# EAGLE library part 12_POS_XH_DEV (library Blizzard_Library)
12 Pos JST XH
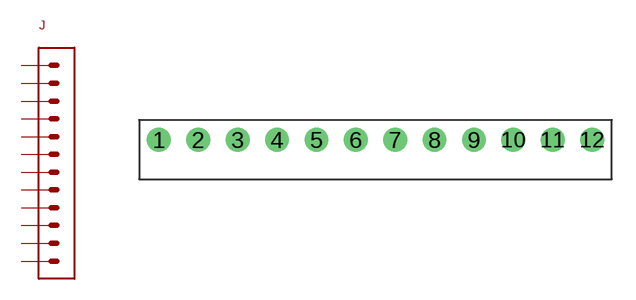
[diagram p11: symbol with the pads of 12_POS_XH_PKG; footprint 12_POS_XH_PKG]

Designator prefix J

## 12_POS_XH_DEV  [12_POS_XH_PKG]
1  P$1
2  P$2
3  P$3
4  P$4
5  P$5
6  P$6
7  P$7
8  P$8
9  P$9
10  P$10
11  P$11
12  P$12

## Footprint 12_POS_XH_PKG (pad centres in mm)
12 Pos 2.5mm Pitch
drill 1: 1 -13.75,0; 2 -11.25,0; 3 -8.75,0; 4 -6.25,0; 5 -3.75,0; 6 -1.25,0; 7 1.25,0; 8 3.75,0; 9 6.25,0; 10 8.75,0; 11 11.25,0; 12 13.75,0